# Altium schematic symbol library 594D686X9010C2T.SchLib: 2 symbols
Pins are listed as number, name and electrical type; pins without a type are passive.

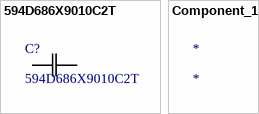
[diagram p0: symbols 594D686X9010C2T to Component_1]

## 594D686X9010C2T
designator C?
No Description Available; Mfr_Name: Vishay; Type: DEV; Copyright: Copyright (C) 2021 Ultra Librarian. All rights reserved.; Manufacturer_Part_Number: 594D686X9010C2T; Digi-Key_Part_Number_1: 594D686X9010C2T-ND; Digi-Key_Part_Number_2: 718-594D686X9010C2TCT-ND; Digi-Key_Part_Number_3: 718-594D686X9010C2TDKR-ND; Digi-Key_Part_Number_4: 718-594D686X9010C2TTR-ND; RefDes: RefDes
footprint CAP_594D_C_VIS
pins: 1, 2

## Component_1
designator *